# EAGLE library part IC_TR_ARRAY_8P_NEGIN_SINK (library mylib_20130829)
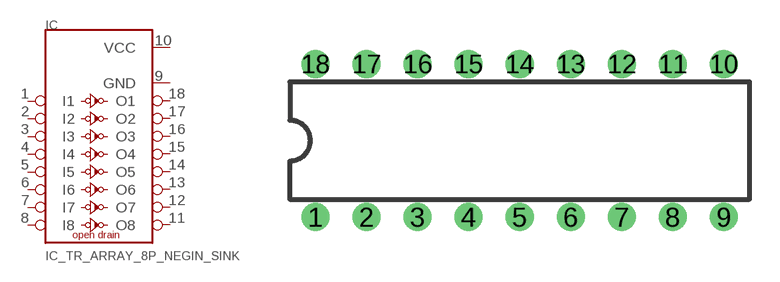
[diagram p49: symbol with the pads of IC_SOCKET_DIL_18; footprint IC_SOCKET_DIL_18]

Designator prefix IC

## IC_TR_ARRAY_8P_NEGIN_SINK_DIP  [IC_SOCKET_DIL_18]
1  I1
2  I2
3  I3
4  I4
5  I5
6  I6
7  I7
8  I8
9  GND  pwr
10  VCC  pwr
11  O8
12  O7
13  O6
14  O5
15  O4
16  O3
17  O2
18  O1

## Footprint IC_SOCKET_DIL_18 (pad centres in mm)
Dual In Line Package
drill 0.889: 1 -10.16,-3.81; 2 -7.62,-3.81; 3 -5.08,-3.81; 4 -2.54,-3.81; 5 0,-3.81; 6 2.54,-3.81; 7 5.08,-3.81; 8 7.62,-3.81; 9 10.16,-3.81; 10 10.16,3.81; 11 7.62,3.81; 12 5.08,3.81; 13 2.54,3.81; 14 0,3.81; 15 -2.54,3.81; 16 -5.08,3.81; 17 -7.62,3.81; 18 -10.16,3.81